# Altium footprint library WearTechPCB.PcbLib: 10 footprints
Each footprint in its own frame and in the unit in brackets; x right, y up, seen from the top. Pads: shape width x height; smd on the part's side, far side on the other; paste and mask are expansions set on the pad; w line width, h text height; cw(c..) or ccw(c..) is an arc to the next point about the centre after c.
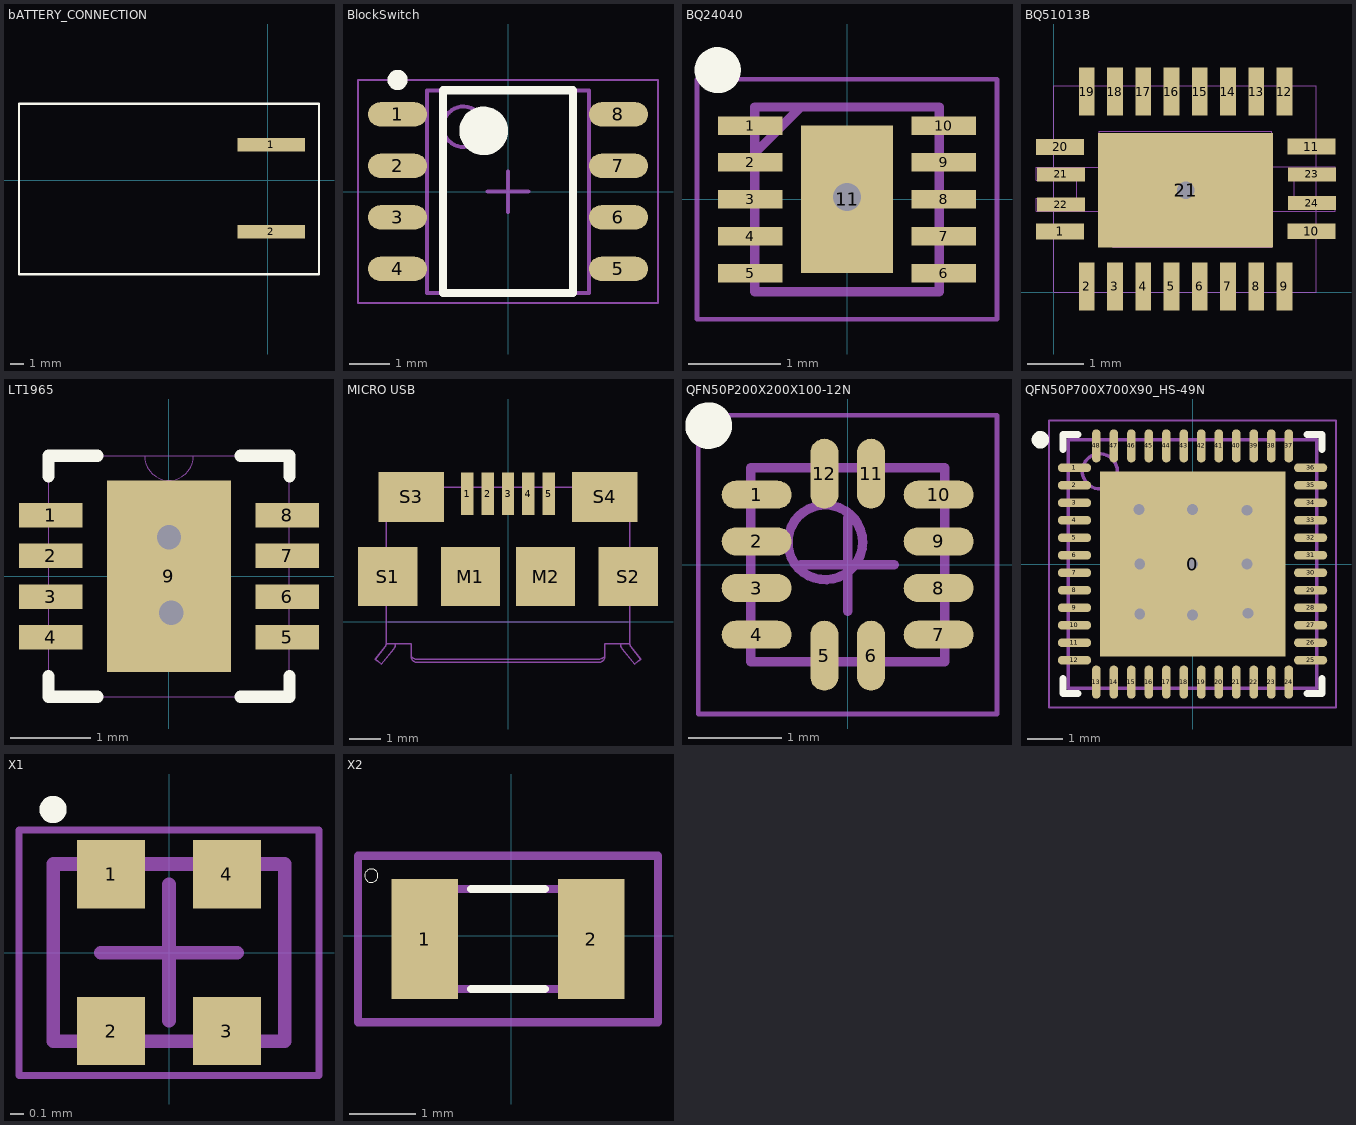
[diagram p0: the footprints below, top view; thin cyan lines are the x and y axes]

## bATTERY_CONNECTION [mm]
pads (2):
  rect 5x1 smd: 1(0.254,2.667) 2(0.254,-3.81)
Top Overlay:
  lines w0.178: -18.542,-6.985 -18.542,5.715 -12.954,5.715 -1.778,5.715 3.81,5.715 3.81,-6.985 -18.542,-6.985

## BlockSwitch [mm] "SOIC, 8-Leads, Body 4.90x3.90mm, Pitch 1.27mm, IPC Medium Density"
height 1.75
pads (8):
  oval 1.45x0.6 smd: 1(-2.725,1.905) 2(-2.725,0.635) 3(-2.725,-0.635) 4(-2.725,-1.905) 5(2.725,-1.905) 6(2.725,-0.635) 7(2.725,0.635) 8(2.725,1.905)
Top Overlay:
  circle w0.25: c-2.725,2.755 r0.125
  circle w0.6: c-0.6,1.5 r0.3
  lines w0.2: -1.6,-2.5 -1.6,2.5 1.6,2.5 1.6,-2.5 -1.6,-2.5
Mechanical 13:
  circle w0.1: c-1.1,1.6 r0.5
  lines w0.1: -2,-2.5 -2,2.5 2,2.5 2,-2.5 -2,-2.5
Mechanical 15:
  lines w0.05: -3.7,-2.75 -3.7,2.75 3.7,2.75 3.7,-2.75 -3.7,-2.75
  lines w0.1: -0.5,0 0.5,0 ; 0,-0.5 0,0.5
3D body: height 1.75, standoff 0.1, extent -2,-2.5 2,2.5

## BQ24040 [mm]
pads (11):
  rect 0.7x0.2 smd mask+0.05: 1(-1.05,0.8) 2(-1.05,0.4) 3(-1.05,0) 4(-1.05,-0.4) 5(-1.05,-0.8) 6(1.05,-0.8) 7(1.05,-0.4) 8(1.05,0) 9(1.05,0.4) 10(1.05,0.8)
  rect 1x1.6 smd: 11(0,0)
via 0,0.025 diameter 0.61 hole 0.305
Top Overlay:
  circle w0.25: c-1.4,1.4 r0.125
Mechanical 15:
  lines w0.1: -1,0.5 -0.5,1 ; -1,-1 1,-1 1,1 -1,1 -1,-1
Mechanical 20:
  lines w0.05: -1.625,-1.3 1.625,-1.3 1.625,1.3 -1.625,1.3 -1.625,-1.3

## BQ51013B [mm]
pads (25):
  rect 0.85x0.28 smd mask+0.05: 1(0.113,1.074) 10(4.56,1.076) 11(4.56,2.576) 20(0.113,2.571)
  rect 0.28x0.85 smd mask+0.05: 2(0.585,0.1) 3(1.085,0.1) 4(1.585,0.1) 5(2.085,0.1) 6(2.585,0.1) 7(3.085,0.1) 8(3.585,0.1) 9(4.085,0.1) 12(4.085,3.55) 13(3.585,3.55) 14(3.085,3.55) 15(2.585,3.55) 16(2.085,3.55) 17(1.585,3.55) 18(1.085,3.55) 19(0.585,3.55)
  rect 0.85x0.25 smd mask+0.05: 21(0.127,2.083) 22(0.127,1.549) 23(4.572,2.083) 24(4.572,1.575)
  rect 3.099x2.032 smd mask+0.05: 21(2.337,1.803)
via 2.337,1.803 diameter 0.61 hole 0.305
Mechanical 1:
  lines w0: 0.808,2.214 -0.312,2.214 -0.312,1.984 0.412,1.984 0.412,1.66 -0.312,1.66 -0.312,1.43 0.808,1.43 0.808,1.035 1.045,0.798 3.86,0.798 3.859,1.428 4.988,1.428 4.988,1.662 4.261,1.662 4.261,1.983 4.988,1.983 4.988,2.215 3.859,2.215 3.859,2.848 0.809,2.848 0.809,2.213 ; 0,0 4.65,0 4.65,3.65 0,3.65 0,0
  text "1" at -0.787,0.838 h0.25
  text "20" at -1.016,2.413 h0.25
  text "19" at 0.051,4.166 h0.25
  text "12" at 4.42,4.115 h0.25
  text "11" at 5.411,2.255 h0.25
  text "10" at 5.334,0.914 h0.25
  text "9" at 4.318,-0.838 h0.25
  text "2" at 0.152,-0.914 h0.25

## LT1965 [mil]
pads (9):
  rect 31x12 smd: 1(-58,30) 2(-58,10) 3(-58,-10) 4(-58,-30) 5(58,-30) 6(58,-10) 7(58,10) 8(58,30)
  rect 61x94 smd: 9(0,0)
via 0,19 diameter 24 hole 12
via 1,-18 diameter 24 hole 12
Top Overlay:
  lines w6: -59,-49 -59,-59 -35,-59 ; -59,49 -59,59 -35,59 ; 35,-59 59,-59 59,-49 ; 35,59 59,59 59,49
Mechanical 1:
  lines w0: -12,59 ccw(c0,59) 12,59 ; -12,59 -59,59 -59,-59 59,-59 59,59 12,59 ; -12,59 12,59

## MICRO USB [mm]
pads (11):
  rect 0.4x1.35 smd: 1(-1.3,4.1) 2(-0.65,4.1) 3(0,4.1) 4(0.65,4.1) 5(1.3,4.1)
  rect 1.9x1.9 smd: M1(-1.2,1.45) M2(1.2,1.45) S1(-3.85,1.45) S2(3.85,1.45)
  rect 2.1x1.6 smd: S3(-3.1,4) S4(3.1,4)
Mechanical 1:
  lines w0: -3.85,0 3.85,0
  lines w0.051: -3.657,-0.87 -4.05,-1.35 -4.25,-1.2 -3.931,-0.79 ccw(c-4.046,-0.7) -3.9,-0.7 ; -3.657,-0.869 ccw(c-3.854,-0.709) -3.6,-0.709 -3.6,-0.7 ; -3.1,-1.101 ccw(c-2.925,-1) -2.9,-1.2 ; -2.9,-1.2 2.9,-1.2 ccw(c2.9,-0.95) 3.1,-1.1 ; 3.6,-0.7 3.6,-0.709 ccw(c3.854,-0.709) 3.657,-0.869 ; 3.657,-0.87 4.05,-1.35 4.25,-1.2 3.931,-0.79 cw(c4.046,-0.7) 3.9,-0.7 ; -3.9,-0.7 -3.6,-0.7 ; -3.9,-0.7 -3.9,4.3 3.9,4.3 3.9,-0.7 ; -3.6,-0.7 -3.1,-0.7 -3.1,-1.1 ccw(c-2.9,-1.1) -2.9,-1.3 2.9,-1.3 ccw(c2.9,-1.1) 3.1,-1.1 ; 3.1,-1.1 3.1,-0.7 3.9,-0.7

## QFN50P200X200X100-12N [mm] "QFN, 12-Leads, Body 2.00x2.00mm, Pitch 0.50mm, IPC Medium Density"
height 1
pads (12):
  oval 0.75x0.3 smd: 1(-0.975,0.75) 2(-0.975,0.25) 3(-0.975,-0.25) 4(-0.975,-0.75) 7(0.975,-0.75) 8(0.975,-0.25) 9(0.975,0.25) 10(0.975,0.75)
  oval 0.3x0.75 smd: 5(-0.25,-0.975) 6(0.25,-0.975) 11(0.25,0.975) 12(-0.25,0.975)
Top Overlay:
  circle w0.25: c-1.49,1.49 r0.125
Mechanical 13:
  circle w0.1: c-0.24,0.24 r0.4
  lines w0.1: -1.04,-1.04 -1.04,1.04 1.04,1.04 1.04,-1.04 -1.04,-1.04
Mechanical 15:
  lines w0.05: -1.6,-1.6 -1.6,1.6 1.6,1.6 1.6,-1.6 -1.6,-1.6
  lines w0.1: -0.5,0 0.5,0 ; 0,-0.5 0,0.5
3D body: height 1, standoff 0.1, extent -1.04,-1.04 1.04,1.04

## QFN50P700X700X90_HS-49N [mm] "QFN, 48-Leads, Body 7.00x7.00mm, Pitch 0.50mm, Thermal Pad 5.30x5.30mm, IPC Medium Density"
height 0.9
pads (49):
  rect 5.3x5.3 smd: 0(0,0)
  oval 0.95x0.25 smd: 1(-3.375,2.75) 2(-3.375,2.25) 3(-3.375,1.75) 4(-3.375,1.25) 5(-3.375,0.75) 6(-3.375,0.25) 7(-3.375,-0.25) 8(-3.375,-0.75) 9(-3.375,-1.25) 10(-3.375,-1.75) 11(-3.375,-2.25) 12(-3.375,-2.75) 25(3.375,-2.75) 26(3.375,-2.25) 27(3.375,-1.75) 28(3.375,-1.25) 29(3.375,-0.75) 30(3.375,-0.25) 31(3.375,0.25) 32(3.375,0.75) 33(3.375,1.25) 34(3.375,1.75) 35(3.375,2.25) 36(3.375,2.75)
  oval 0.25x0.95 smd: 13(-2.75,-3.375) 14(-2.25,-3.375) 15(-1.75,-3.375) 16(-1.25,-3.375) 17(-0.75,-3.375) 18(-0.25,-3.375) 19(0.25,-3.375) 20(0.75,-3.375) 21(1.25,-3.375) 22(1.75,-3.375) 23(2.25,-3.375) 24(2.75,-3.375) 37(2.75,3.375) 38(2.25,3.375) 39(1.75,3.375) 40(1.25,3.375) 41(0.75,3.375) 42(0.25,3.375) 43(-0.25,3.375) 44(-0.75,3.375) 45(-1.25,3.375) 46(-1.75,3.375) 47(-2.25,3.375) 48(-2.75,3.375)
via -1.532,1.557 diameter 0.61 hole 0.305
via 0,1.557 diameter 0.61 hole 0.305
via 1.557,1.532 diameter 0.61 hole 0.305
via -1.506,0 diameter 0.61 hole 0.305
via 0,0 diameter 0.61 hole 0.305
via 1.557,0 diameter 0.61 hole 0.305
via -1.506,-1.43 diameter 0.61 hole 0.305
via 0,-1.456 diameter 0.61 hole 0.305
via 1.583,-1.405 diameter 0.61 hole 0.305
Top Overlay:
  circle w0.25: c-4.35,3.55 r0.125
  lines w0.2: -3.7,-3.275 -3.7,-3.7 -3.275,-3.7 ; -3.7,3.275 -3.7,3.7 -3.275,3.7 ; 3.275,-3.7 3.7,-3.7 3.7,-3.275 ; 3.275,3.7 3.7,3.7 3.7,3.275
Mechanical 13:
  circle w0.1: c-2.65,2.65 r0.5
  lines w0.1: -3.55,-3.55 -3.55,3.55 3.55,3.55 3.55,-3.55 -3.55,-3.55
Mechanical 15:
  lines w0.05: -4.1,-4.1 -4.1,4.1 4.1,4.1 4.1,-4.1 -4.1,-4.1
  lines w0.1: -0.5,0 0.5,0 ; 0,-0.5 0,0.5
3D body: height 0.9, standoff 0, extent -3.55,-3.55 3.55,3.55

## X1 [mm]
pads (4):
  rect 0.5x0.5 smd: 1(-0.425,0.575) 2(-0.425,-0.575) 3(0.425,-0.575) 4(0.425,0.575)
Top Overlay:
  circle w0.1: c-0.85,1.05 r0.05
Mechanical 13:
  lines w0.1: -0.85,-0.65 0.85,-0.65 0.85,0.65 -0.85,0.65 -0.85,-0.65
Mechanical 15:
  lines w0.05: -1.1,-0.9 1.1,-0.9 1.1,0.9 -1.1,0.9 -1.1,-0.9
  lines w0.1: -0.5,0 0.5,0 ; 0,-0.5 0,0.5
3D body: height 0.65, standoff 0, extent -0.85,-0.65 0.85,0.65

## X2 [mm]
pads (2):
  rect 1x1.8 smd: 1(-1.301,-0.051) 2(1.199,-0.051)
Top Overlay:
  circle w0: c-2.101,0.899 r0.1
  lines w0.127: -0.601,-0.801 0.499,-0.801 ; -0.601,0.699 0.499,0.699
Mechanical 1:
  lines w0.127: -0.601,-0.801 -1.651,-0.801 -1.651,0.699 -0.601,0.699 ; 0.499,-0.801 1.549,-0.801 1.549,0.699 0.499,0.699 ; -2.301,-1.301 -2.301,1.199 2.199,1.199 2.199,-1.301 -2.301,-1.301